# Altium footprint library Resistors.PcbLib: 3 footprints
Each footprint in its own frame and in the unit in brackets; x right, y up, seen from the top. Pads: shape width x height; smd on the part's side, far side on the other; paste and mask are expansions set on the pad; w line width, h text height; cw(c..) or ccw(c..) is an arc to the next point about the centre after c.
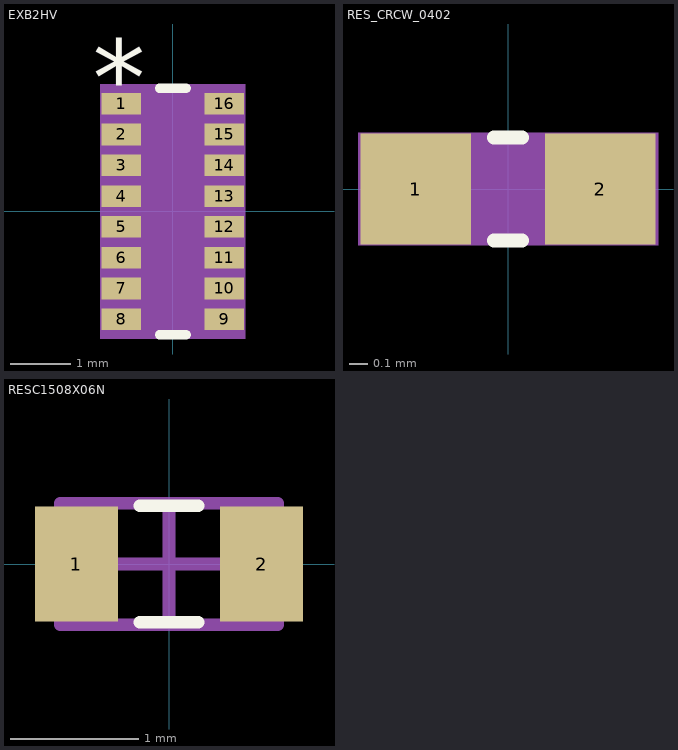
[diagram p0: the footprints below, top view; thin cyan lines are the x and y axes]

## EXB2HV [mm]
pads (16):
  rect 0.65x0.356 smd paste+0 mask+0.051: 1(-0.85,1.778) 2(-0.85,1.27) 3(-0.85,0.762) 4(-0.85,0.254) 5(-0.85,-0.254) 6(-0.85,-0.762) 7(-0.85,-1.27) 8(-0.85,-1.778) 9(0.85,-1.778) 10(0.85,-1.27) 11(0.85,-0.762) 12(0.85,-0.254) 13(0.85,0.254) 14(0.85,0.762) 15(0.85,1.27) 16(0.85,1.778)
Top Overlay:
  lines w0.152: -0.222,-2.032 0.222,-2.032 ; -0.222,2.032 0.222,2.032
  text "*" at -1.321,1.575 h1.27
Mechanical 5:
  region: 1.194,-2.095 -1.194,-2.095 -1.194,2.095 1.194,2.095
Mechanical 13:
  lines w0: -0.495,-1.6 ccw(c-0.495,-1.524) -0.495,-1.448 ; -0.495,-1.092 ccw(c-0.495,-1.016) -0.495,-0.94 ; -0.495,-0.584 ccw(c-0.495,-0.508) -0.495,-0.432 ; -0.495,-0.076 ccw(c-0.495,0) -0.495,0.076 ; -0.495,0.432 ccw(c-0.495,0.508) -0.495,0.584 ; -0.495,0.94 ccw(c-0.495,1.016) -0.495,1.092 ; -0.495,1.448 ccw(c-0.495,1.524) -0.495,1.6 ; 0.495,-1.6 cw(c0.495,-1.524) 0.495,-1.448 ; 0.495,-1.092 cw(c0.495,-1.016) 0.495,-0.94 ; 0.495,-0.584 cw(c0.495,-0.508) 0.495,-0.432 ; 0.495,-0.076 cw(c0.495,0) 0.495,0.076 ; 0.495,0.432 cw(c0.495,0.508) 0.495,0.584 ; 0.495,0.94 cw(c0.495,1.016) 0.495,1.092 ; 0.495,1.448 cw(c0.495,1.524) 0.495,1.6
  lines w0.025: -0.495,-1.6 -0.495,-1.956 -0.495,-1.905 0.495,-1.905 0.495,-1.956 0.495,-1.6 ; -0.495,-1.448 -0.495,-1.092 ; -0.495,-0.94 -0.495,-0.584 ; -0.495,-0.432 -0.495,-0.076 ; -0.495,0.076 -0.495,0.432 ; -0.495,0.584 -0.495,0.94 ; -0.495,1.092 -0.495,1.448 ; -0.495,1.6 -0.495,1.956 -0.495,1.905 0.495,1.905 0.495,1.956 0.495,1.6 ; 0.495,-1.448 0.495,-1.092 ; 0.495,-0.94 0.495,-0.584 ; 0.495,-0.432 0.495,-0.076 ; 0.495,0.076 0.495,0.432 ; 0.495,0.584 0.495,0.94 ; 0.495,1.092 0.495,1.448
Mechanical 15:
  region: 0.495,-1.905 -0.495,-1.905 -0.495,1.905 0.495,1.905
3D body "1506ResPack8.STEP": height 0.45, standoff 0, extent -0.8,-1.925 0.8,1.925

## RES_CRCW_0402 [mm]
pads (2):
  rect 0.6x0.6 smd paste+0 mask+0.051: 1(-0.5,0) 2(0.5,0)
Top Overlay:
  lines w0.076: -0.076,-0.279 0.076,-0.279 ; -0.076,0.279 0.076,0.279
Mechanical 5:
  region: 0.813,-0.305 -0.813,-0.305 -0.813,0.305 0.813,0.305
Mechanical 13:
  lines w0.025: -0.521,-0.279 -0.521,0.279 ; -0.521,-0.279 -0.216,-0.279 -0.216,0.279 -0.521,0.279 ; -0.521,-0.279 0.521,-0.279 ; -0.521,-0.279 -0.521,0.279 ; 0.521,-0.279 0.216,-0.279 0.216,0.279 0.521,0.279 ; 0.521,-0.279 0.521,0.279 ; 0.521,-0.279 0.521,0.279
3D body: height 0.25, standoff 0, extent 0,0 0.254,0.254
3D body "RES_CRCW_0402.step": height 0.41, standoff 0, extent -0.521,-0.279 0.521,0.279

## RESC1508X06N [mm] "Chip Resistor, 2-Leads, Body 1.55x0.80mm, IPC Medium Density"
height 0.55
pads (2):
  rect 0.65x0.9 smd: 1(-0.725,0) 2(0.725,0)
Top Overlay:
  lines w0.1: -0.229,-0.457 0.229,-0.457 ; -0.229,0.457 0.229,0.457
Assembly Top:
  lines w0.1: -0.85,-0.475 0.85,-0.475 0.85,0.475 -0.85,0.475 -0.85,-0.475
Courtyard Top:
  lines w0.1: -0.475,0 0.475,0 ; 0,-0.475 0,0.475
3D body "RESC1508X06N.step": height 0.55, standoff 0, extent -0.85,-0.475 0.85,0.475